# EAGLE library part TPS61089 (library common)
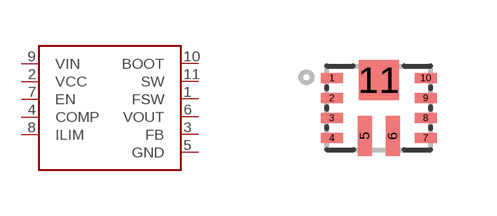
[diagram p40: symbol with the pads of VQFN-11; footprint VQFN-11]

Designator prefix U

## TPS61089  [VQFN-11]
1  FSW
2  VCC
3  FB
4  COMP
5  GND
6  VOUT
7  EN
8  ILIM
9  VIN
10  BOOT
11  SW

## Footprint VQFN-11 (pad centres in mm)
smd 0.55 x 0.25: 1 -1.175,0.75; 2 -1.175,0.25; 3 -1.175,-0.25; 4 -1.175,-0.75; 7 1.175,-0.75; 8 1.175,-0.25; 9 1.175,0.25; 10 1.175,0.75
smd 0.35 x 1: 5 -0.35,-0.7; 6 0.35,-0.7
smd 1 x 1: 11 0,0.7